# EAGLE library part LTV-827S-TA1 (library OPTOISOLATOR)
Optoisolator Transistor Output 5000Vrms 2 Channel 8-SMD Manufacturer's datasheet <https://media.digikey.com/pdf/Data%20Sheets/Lite-On%20PDFs/LTV-817_827_847(M,S,S_TA1).pdf>
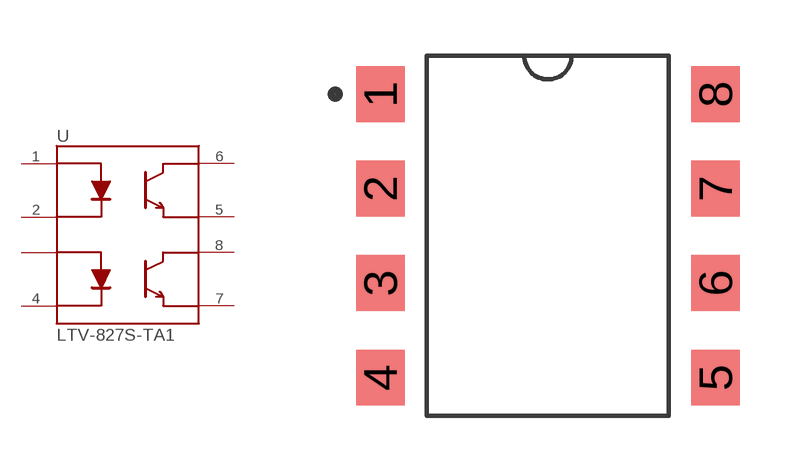
[diagram p0: symbol with the pads of LTV-827S-TA1; footprint LTV-827S-TA1]

Designator prefix U

## LTV-827S-TA1 (CREATED_BY: PCBLayout.com; DIGIKEY_PART_NUMBER: 160-2040-1-ND; MANUFACTURER: Lite-On Inc.; MPN: LTV-827S-TA1; PACKAGE: 8-SMD)  [LTV-827S-TA1]
1  ANODE_1  pas
2  CATHODE_2  pas
3  ANODE_3  pas
4  CATHODE_4  pas
5  EMITTER_7  pas
6  COLLECTOR_9  pas
7  EMITTER_5  pas
8  COLLECTOR_6  pas

## Footprint LTV-827S-TA1 (pad centres in mm)
smd 1.3 x 1.5: 1 -4.5,3.81; 2 -4.5,1.27; 3 -4.5,-1.27; 4 -4.5,-3.81; 5 4.5,-3.81; 6 4.5,-1.27; 7 4.5,1.27; 8 4.5,3.81